# Altium schematic symbol library Schlib1.SchLib: 10 symbols
Pins are listed as number, name and electrical type; pins without a type are passive.

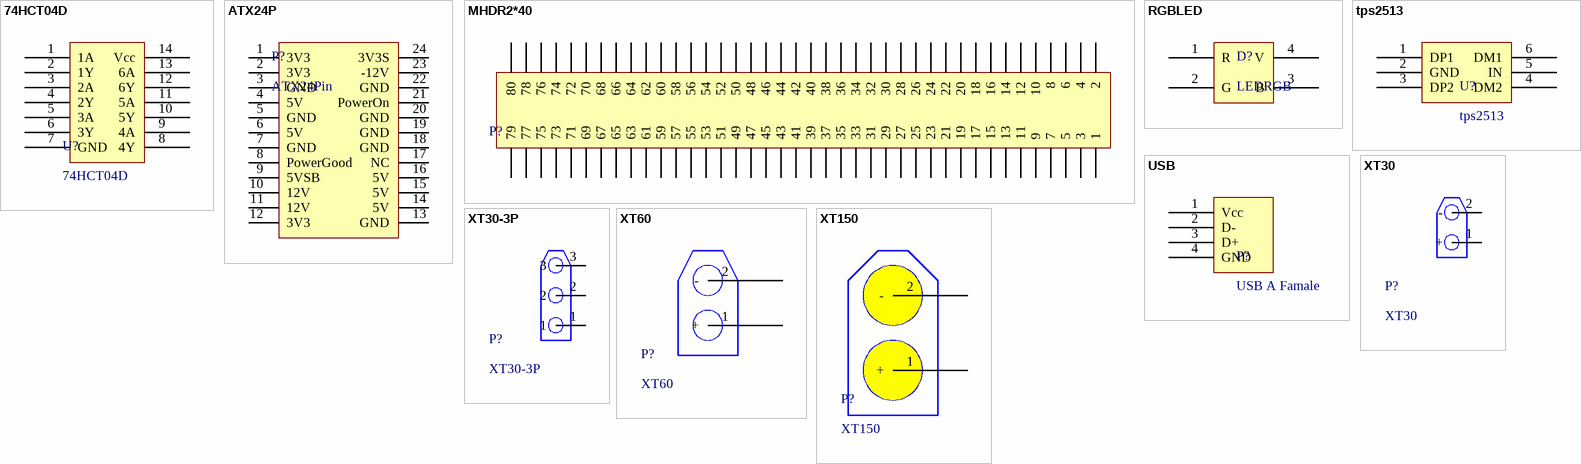
[diagram p0: symbols 74HCT04D to XT150]

## 74HCT04D
designator U?
footprint SOIC14_N (Footprint not found)
pins: 1 1A, 2 1Y, 3 2A, 4 2Y, 5 3A, 6 3Y, 7 GND, 8 4Y, 9 4A, 10 5Y, 11 5A, 12 6Y, 13 6A, 14 Vcc

## ATX24P
designator P?, comment ATX24Pin
pins: 1 3V3, 2 3V3, 3 GND, 4 5V, 5 GND, 6 5V, 7 GND, 8 PowerGood, 9 5VSB, 10 12V, 11 12V, 12 3V3, 13 GND, 14 5V, 15 5V, 16 5V, 17 NC, 18 GND, 19 GND, 20 GND, 21 PowerOn, 22 GND, 23 -12V, 24 3V3S

## MHDR2*40
designator P?
MHDR2*40
pins: 1, 2, 3, 4, 5, 6, 7, 8, 9, 10, 11, 12, 13, 14, 15, 16, 17, 18, 19, 20, 21, 22, 23, 24, 25, 26, 27, 28, 29, 30, 31, 32, 33, 34, 35, 36, 37, 38, 39, 40, 41, 42, 43, 44, 45, 46, 47, 48, 49, 50, 51, 52, 53, 54, 55, 56, 57, 58, 59, 60, 61, 62, 63, 64, 65, 66, 67, 68, 69, 70, 71, 72, 73, 74, 75, 76, 77, 78, 79, 80

## RGBLED
designator D?, comment LEDRGB
url: https://detail.tmall.com/item.htm?id=35775056448
pins: 1 R, 2 G, 3 B, 4 V

## tps2513
designator U?
footprint Model Name (Footprint not found)
pins: 1 DP1, 2 GND, 3 DP2, 4 DM2, 5 IN, 6 DM1

## USB
designator P?, comment USB A Famale
pins: 1 Vcc, 2 D-, 3 D+, 4 GND

## XT30
designator P?
pins: 1 +, 2 -

## XT30-3P
designator P?
pins: 1, 2, 3

## XT60
designator P?
pins: 1 +, 2 -

## XT150
designator P?
pins: 1 +, 2 -